# Altium footprint library 9THS100.PcbLib: 1 footprints
Each footprint in its own frame and in the unit in brackets; x right, y up, seen from the top. Pads: shape width x height; smd on the part's side, far side on the other; paste and mask are expansions set on the pad; w line width, h text height; cw(c..) or ccw(c..) is an arc to the next point about the centre after c.
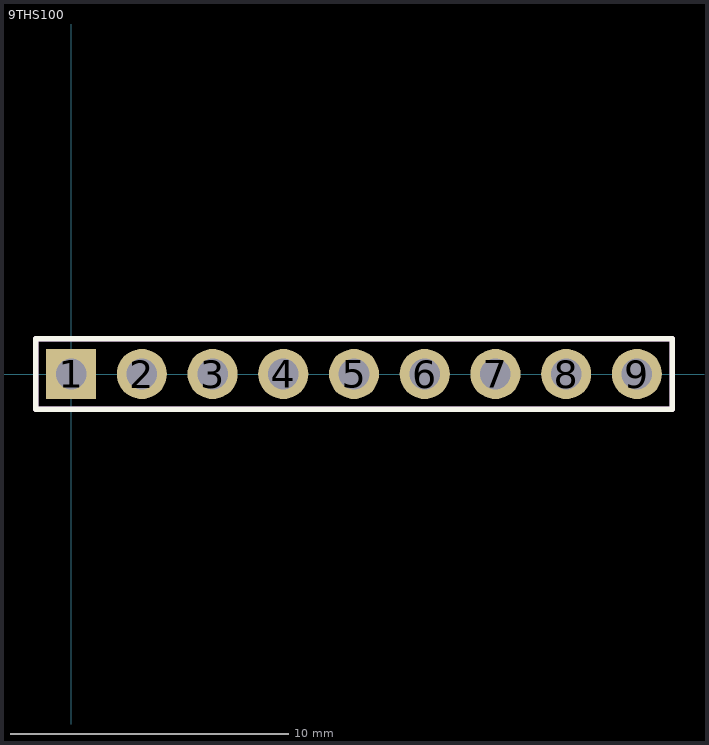
[diagram p0: the footprint, top view; thin cyan lines are the x and y axes]

## 9THS100 [mm]
height 8.5
pads (9):
  rect 1.8x1.8 hole 1.1: 1(0,0)
  round 1.8 hole 1.1: 2(2.54,0) 3(5.08,0) 4(7.62,0) 5(10.16,0) 6(12.7,0) 7(15.24,0) 8(17.78,0) 9(20.32,0)
Top Overlay:
  lines w0.2: -1.27,-1.27 -1.27,1.27 21.59,1.27 21.59,-1.27 -1.27,-1.27
Mechanical 7:
  circle w0.2: c10.16,0 r0.5
  circle w0.2: c7.62,0 r0.5
  circle w0.2: c0,0 r0.5
  circle w0.2: c2.54,0 r0.5
  circle w0.2: c5.08,0 r0.5
  circle w0.2: c12.7,0 r0.5
  circle w0.2: c15.24,0 r0.5
  circle w0.2: c17.78,0 r0.5
  lines w0.2: -1.27,-1.27 21.59,-1.27 21.59,1.27 -1.27,1.27 -1.27,-1.27
  text "1" at -2.26,-0.5 h2